# Altium footprint library EMI_FLTR_0603_1608.PcbLib: 1 footprints
Each footprint in its own frame and in the unit in brackets; x right, y up, seen from the top. Pads: shape width x height; smd on the part's side, far side on the other; paste and mask are expansions set on the pad; w line width, h text height; cw(c..) or ccw(c..) is an arc to the next point about the centre after c.
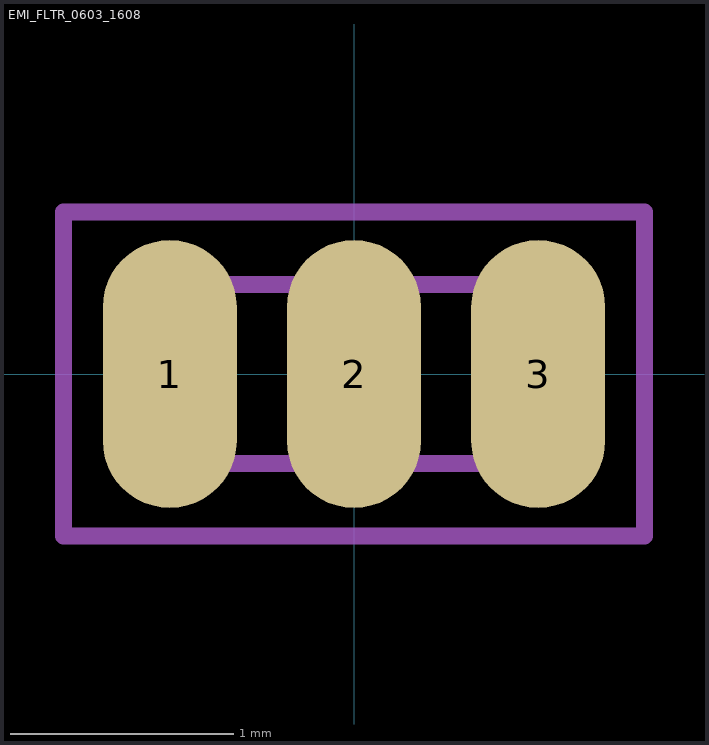
[diagram p0: the footprint, top view; thin cyan lines are the x and y axes]

## EMI_FLTR_0603_1608 [mm]
pads (3):
  oval 0.6x1.2 smd mask+0.05: 1(-0.825,0) 2(0,0) 3(0.825,0)
Top Assembly:
  lines w0.076: -0.127,0 0.127,0 ; 0,-0.127 0,0.127 ; -0.8,-0.4 -0.8,0.4 0.8,0.4 0.8,-0.4 -0.8,-0.4
Top Courtyard:
  lines w0.076: -1.3,-0.725 -1.3,0.725 1.3,0.725 1.3,-0.725 -1.3,-0.725
3D body "User Library-NFL18ST_v2.step": height 0.8, standoff 0, extent -0.8,-0.4 0.8,0.4